# EAGLE library part ASMT-YTB2-0BB02 (library ASMT-YTB2-0BB02)
Broadcom ASMT-YTB2-0BB02, 470 / 530 / 622 nm 3 RGB LED, PLCC 6 SMD package Source: Datasheet
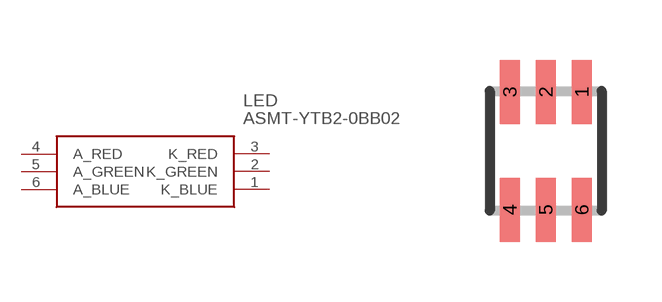
[diagram p0: symbol with the pads of ASMT-YTC7-0AA02; footprint ASMT-YTC7-0AA02]

Designator prefix LED

## ASMT-YTB2-0BB02 (Description: Broadcom ASMT-YTB2-0BB02, 470 / 530 / 622 nm 3 RGB LED, PLCC 6 SMD package; Height: mm; Manufacturer_Name: Avago Technologies; Manufacturer_Part_Number: ASMT-YTB2-0BB02; Mouser_Part_Number: 630-ASMT-YTB2-0BB02; Mouser_Price-Stock: https://www.mouser.co.uk/ProductDetail/Broadcom-Avago/ASMT-YTB2-0BB02?qs=wmFqszA%252Be7NbgAs1Z53pjg%3D%3D)  [ASMT-YTC7-0AA02]
1  K_BLUE
2  K_GREEN
3  K_RED
4  A_RED
5  A_GREEN
6  A_BLUE

## Footprint ASMT-YTC7-0AA02 (pad centres in mm)
ASMT-YTC7-0AA02
smd 0.5 x 1.6: 1 0.9,1.475; 2 0,1.475; 3 -0.9,1.475; 4 -0.9,-1.475; 5 0,-1.475; 6 0.9,-1.475